# Altium schematic symbol library J1021CS312VDCP20.SchLib: 2 symbols
Pins are listed as number, name and electrical type; pins without a type are passive.

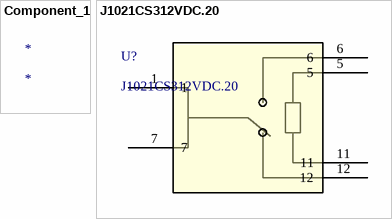
[diagram p0: symbols Component_1 to J1021CS312VDC.20]

## Component_1
designator *

## J1021CS312VDC.20
designator U?
No Description Available; Mfr_Name: CIT Relay & Switch; Copyright: Copyright (C) 2023 Ultra Librarian. All rights reserved.; Manufacturer_Part_Number: J1021CS312VDC.20; RefDes: RefDes; Type: DEV
footprint RELAY6_J1021CS312VDC.20_CRS
pins: 1, 5, 6, 7, 11, 12